# Altium footprint library Molex_4-pin.PcbLib: 1 footprints
Each footprint in its own frame and in the unit in brackets; x right, y up, seen from the top. Pads: shape width x height; smd on the part's side, far side on the other; paste and mask are expansions set on the pad; w line width, h text height; cw(c..) or ccw(c..) is an arc to the next point about the centre after c.
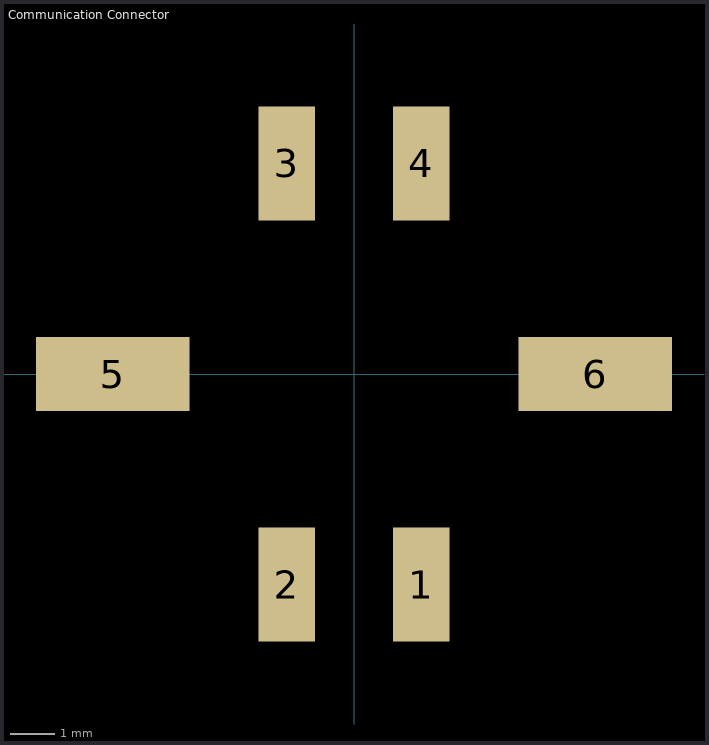
[diagram p0: the footprint, top view; thin cyan lines are the x and y axes]

## Communication Connector [mm] "Micro-Fit 3.0 Vertical Header, 3.00mm Pitch, Dual Row, 4 Circuits, with Solder Tab, Tin, Glow-Wire Capable, Black + Micro-Fit 3.0 Receptacle Housing, Dual Row, 4 Circuits, UL 94V-0, Low-Halogen, Black"
pads (6):
  rect 1.27x2.54 smd: 1(1.5,-4.7) 2(-1.5,-4.7) 3(-1.5,4.7) 4(1.5,4.7)
  rect 3.43x1.65 smd: 5(-5.385,0) 6(5.385,0)
3D body "Assem1.STEP": height 17.72, standoff 0.17, extent -6.825,-5.588 6.825,6.821